# Altium schematic symbol library SN65HVD232DR.SchLib: 1 symbol
Pins are listed as number, name and electrical type; pins without a type are passive.

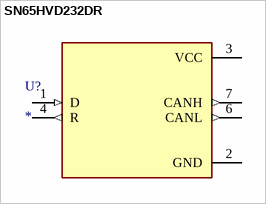
[diagram p0: symbol SN65HVD232DR]

## SN65HVD232DR
designator U?
Value: *
pins: 1 D (in), 2 GND (power), 3 VCC (power), 4 R (out), 6 CANL (out), 7 CANH (out)